# Altium schematic symbol library Sensor.SchLib: 5 symbols
Pins are listed as number, name and electrical type; pins without a type are passive.

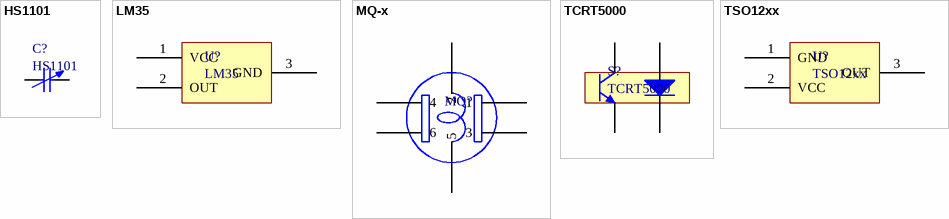
[diagram p0: symbols HS1101 to TSO12xx]

## HS1101
designator C?
RELATIVE HUMIDITY SENSOR; Designer: Seyed Mohsen Ghasemain; E-mail: picpars@gmail.com; ComponentLinkURL: www.picpars.com
footprint HS1101 (HUMIDITY SENSOR)
pins: 1, 2

## LM35
designator U?
LM35 Temperature Sensor; Designer: Seyed Mohsen Ghasemain; E-mail: picpars@gmail.com; ComponentLinkURL: www.picpars.com
footprint LM35-TO92
pins: 1 VCC, 2 OUT, 3 GND

## MQ-x
designator MQ?  (value not drawn)
Gas Sensor; Designer: Seyed Mohsen Ghasemain; E-mail: picpars@gmail.com; ComponentLinkURL: www.picpars.com
footprint MQ-x (Gas sensor)
pins: 1, 2, 3, 4, 5, 6

## TCRT5000
designator S?
IR LED; T&R; Designer: Seyed Mohsen Ghasemain; ComponentLinkURL: www.picpars.com
footprint TCRT5000 (IR Sensor 2LEDs)
pins: A, C, E, K

## TSO12xx
designator U?
Reciver Remot Control (IR) 30-56KHz; Designer: Seyed Mohsen Ghasemain; ComponentLinkURL: www.picpars.com
footprint IR10
footprint IR10
pins: 1 GND, 2 VCC, 3 OUT